# Altium footprint library CC2541F256RHAR.PcbLib: 2 footprints
Each footprint in its own frame and in the unit in brackets; x right, y up, seen from the top. Pads: shape width x height; smd on the part's side, far side on the other; paste and mask are expansions set on the pad; w line width, h text height; cw(c..) or ccw(c..) is an arc to the next point about the centre after c.
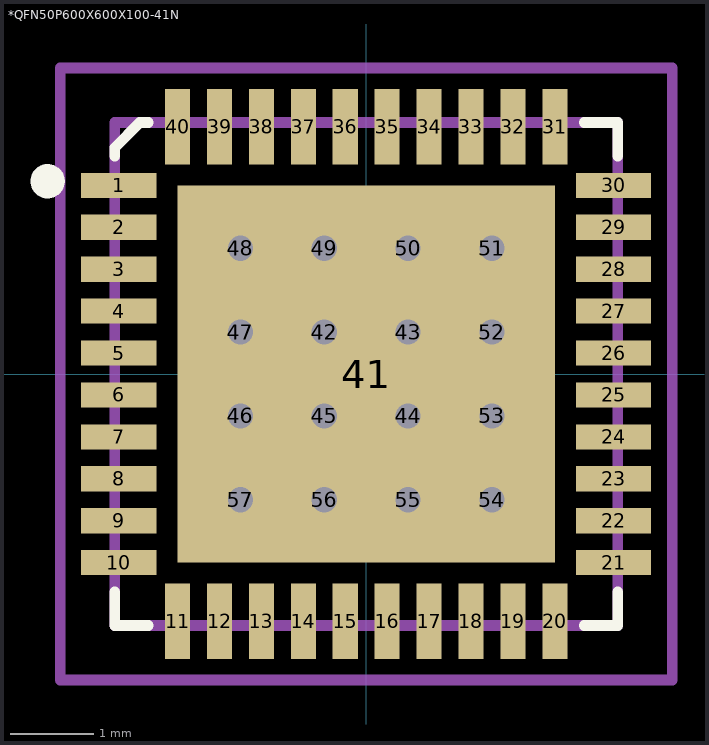
[diagram p0: the footprints below, top view; thin cyan lines are the x and y axes]

## *QFN50P600X600X100-41N [mm]
pads (57):
  rect 0.9x0.3 smd: 1(-2.95,2.25) 2(-2.95,1.75) 3(-2.95,1.25) 4(-2.95,0.75) 5(-2.95,0.25) 6(-2.95,-0.25) 7(-2.95,-0.75) 8(-2.95,-1.25) 9(-2.95,-1.75) 10(-2.95,-2.25) 21(2.95,-2.25) 22(2.95,-1.75) 23(2.95,-1.25) 24(2.95,-0.75) 25(2.95,-0.25) 26(2.95,0.25) 27(2.95,0.75) 28(2.95,1.25) 29(2.95,1.75) 30(2.95,2.25)
  rect 0.3x0.9 smd: 11(-2.25,-2.95) 12(-1.75,-2.95) 13(-1.25,-2.95) 14(-0.75,-2.95) 15(-0.25,-2.95) 16(0.25,-2.95) 17(0.75,-2.95) 18(1.25,-2.95) 19(1.75,-2.95) 20(2.25,-2.95) 31(2.25,2.95) 32(1.75,2.95) 33(1.25,2.95) 34(0.75,2.95) 35(0.25,2.95) 36(-0.25,2.95) 37(-0.75,2.95) 38(-1.25,2.95) 39(-1.75,2.95) 40(-2.25,2.95)
  rect 4.5x4.5 smd: 41(0,0)
  round 0.4 hole 0.3: 42(-0.5,0.5) 43(0.5,0.5) 44(0.5,-0.5) 45(-0.5,-0.5) 46(-1.5,-0.5) 47(-1.5,0.5) 48(-1.5,1.5) 49(-0.5,1.5) 50(0.5,1.5) 51(1.5,1.5) 52(1.5,0.5) 53(1.5,-0.5) 54(1.5,-1.5) 55(0.5,-1.5) 56(-0.5,-1.5) 57(-1.5,-1.5)
Top Overlay:
  circle w0.254: c-3.8,2.3 r0.05
  circle w0.127: c-3.8,2.3 r0.141
  lines w0.127: -3,-2.6 -3,-3 -2.6,-3 ; -3,2.6 -3,2.7 -2.7,3 -2.6,3 ; 2.6,-3 3,-3 3,-2.6 ; 2.6,3 3,3 3,2.6
Top Paste:
  region: 0.901,-0.9 2.1,-0.9 2.1,-2.103 0.901,-2.103
  region: -0.601,-0.9 0.6,-0.9 0.6,-2.103 -0.601,-2.103
  region: -2.103,-0.9 -0.9,-0.9 -0.9,-2.103 -2.103,-2.103
  region: 0.9,2.1 2.1,2.1 2.1,0.9 0.9,0.9
  region: -0.6,2.1 0.6,2.1 0.6,0.901 -0.6,0.901
  region: -2.103,2.1 -0.9,2.1 -0.9,0.901 -2.103,0.901
  region: 0.901,0.6 2.1,0.6 2.1,-0.601 0.901,-0.601
  region: -2.101,0.6 -0.9,0.6 -0.9,-0.6 -2.101,-0.6
  region: -0.6,0.6 0.6,0.6 0.6,-0.6 -0.6,-0.6
Mechanical 4:
  lines w0.127: -3,-3 -3,3 ; -3,-3 3,-3 ; -3,-3 -3,3 ; -3,-3 3,-3 ; -3,3 3,3 ; -3,3 3,3 ; 3,-3 3,3 ; 3,-3 3,3
Mechanical 16:
  lines w0.127: -3.65,-3.65 -3.65,3.65 3.65,3.65 3.65,-3.65 -3.65,-3.65

## PCBComponent_1 [mm]